# Altium schematic symbol library IEA_uRobots_v2.SchLib: 2 symbols
Pins are listed as number, name and electrical type; pins without a type are passive.

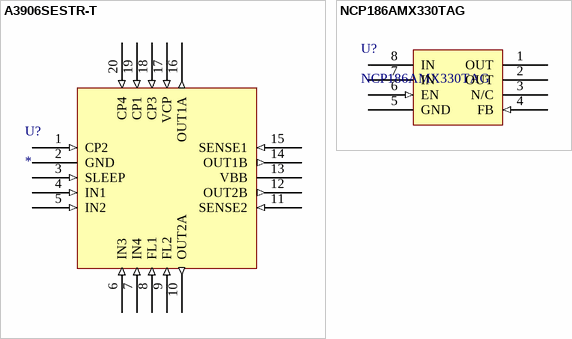
[diagram p0: symbols A3906SESTR-T to NCP186AMX330TAG]

## A3906SESTR-T
designator U?
Low Voltage Stepper and Single/Dual DC Motor Driver; Datasheet: http://www.allegromicro.com/~/media/Files/Datasheets/A3906-Datasheet.ashx; Supplier 1: Digi-Key; Supplier Part Number 1: 620-1288-1-ND
footprint A3906SESTR-T (Low Voltage Stepper and Single/Dual DC Motor Driver, QFN, 20-Leads, Body 4.00x4.00mm, Pitch 0.50mm, Thermal Pad 2.45x2.45mm, IPC Medium Density)
pins: 1 CP2 (in) "Charge pump capacitor terminal 2", 2 GND (power) "Ground", 3 SLEEP (in) "Sleep logic input, active low", 4 IN1 (in) "Control input", 5 IN2 (in) "Control input", 6 IN3 (in) "Control input", 7 IN4 (in) "Control input", 8 FL1 (in) "Current limit flag, bridge 1", 9 FL2 (in) "Current limit flag, bridge 2", 10 OUT2A (out) "DMOS full-bridge 2, output A", 11 SENSE2 (in) "Current sense resistor terminal, bridge 2", 12 OUT2B (out) "DMOS full-bridge 2, output B", 13 VBB (power) "Supply Voltage", 14 OUT1B (out) "DMOS full-bridge 1, output B", 15 SENSE1 (in) "Current sense resistor terminal, bridge 1", 16 OUT1A (out) "DMOS full-bridge 1, output A", 17 VCP (in) "Reservoir capacitor terminal", 18 CP3 (in) "Charge pump capacitor terminal 3", 19 CP1 (in) "Charge pump capacitor terminal 1", 20 CP4 (in) "Charge pump capacitor terminal 4"

## NCP186AMX330TAG
designator U?
Fast Transient Response Low Voltage 1A LDO; Datasheet: http://www.onsemi.com/pub/Collateral/NCP186-D.PDF; Supplier 1: Digi-Key; Supplier Part Number 1: NCP186AMX330TAGOSCT-ND
footprint NCP186AMX330TAG (XDFN8, Body 1.60x1.20mm, Pitch 0.40mm, IPC Medium Density)
pins: 1 OUT (power) "LDO output", 2 OUT (power) "LDO output", 3 N/C "Not Connected, can be tied to GND to improve thermal dissipation", 4 FB (in) "Feedback input", 5 GND (power) "Ground", 6 EN (in) "Chip Enable (active H)", 7 IN (power) "Power supply input", 8 IN (power) "Power supply input"